# EAGLE library part TXB0106 (library we-chip)
TI TXB0106 6-Bit Bi-Directional Level Shifter (1.2V-3.6V to 1.65V-5.5V)
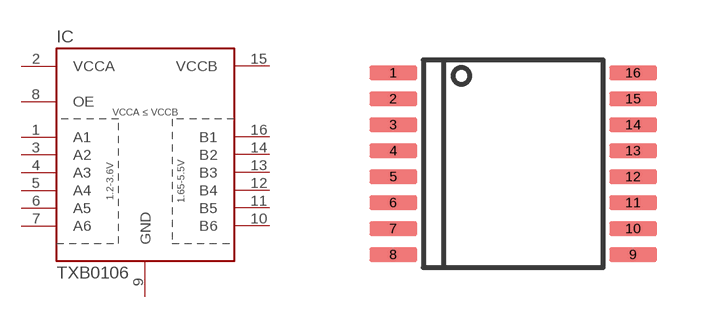
[diagram p34: symbol with the pads of TSSOP16; footprint TSSOP16]

Designator prefix IC

## TXB0106-PW  [TSSOP16]
1  A1
2  VCCA  pwr
3  A2
4  A3
5  A4
6  A5
7  A6
8  OE
9  GND  pwr
10  B6
11  B5
12  B4
13  B3
14  B2
15  VCCB  pwr
16  B1

## Footprint TSSOP16 (pad centres in mm)
smd 1.2 x 0.35: 1 -3,2.275; 2 -3,1.625; 3 -3,0.975; 4 -3,0.325; 5 -3,-0.325; 6 -3,-0.975; 7 -3,-1.625; 8 -3,-2.275; 9 3,-2.275; 10 3,-1.625; 11 3,-0.975; 12 3,-0.325; 13 3,0.325; 14 3,0.975; 15 3,1.625; 16 3,2.275